# Altium footprint library Footprint-Lib-JVillodres.PcbLib: 38 footprints (part 2 of 3)
Each footprint in its own frame and in the unit in brackets; x right, y up, seen from the top. Pads: shape width x height; smd on the part's side, far side on the other; paste and mask are expansions set on the pad; w line width, h text height; cw(c..) or ccw(c..) is an arc to the next point about the centre after c.
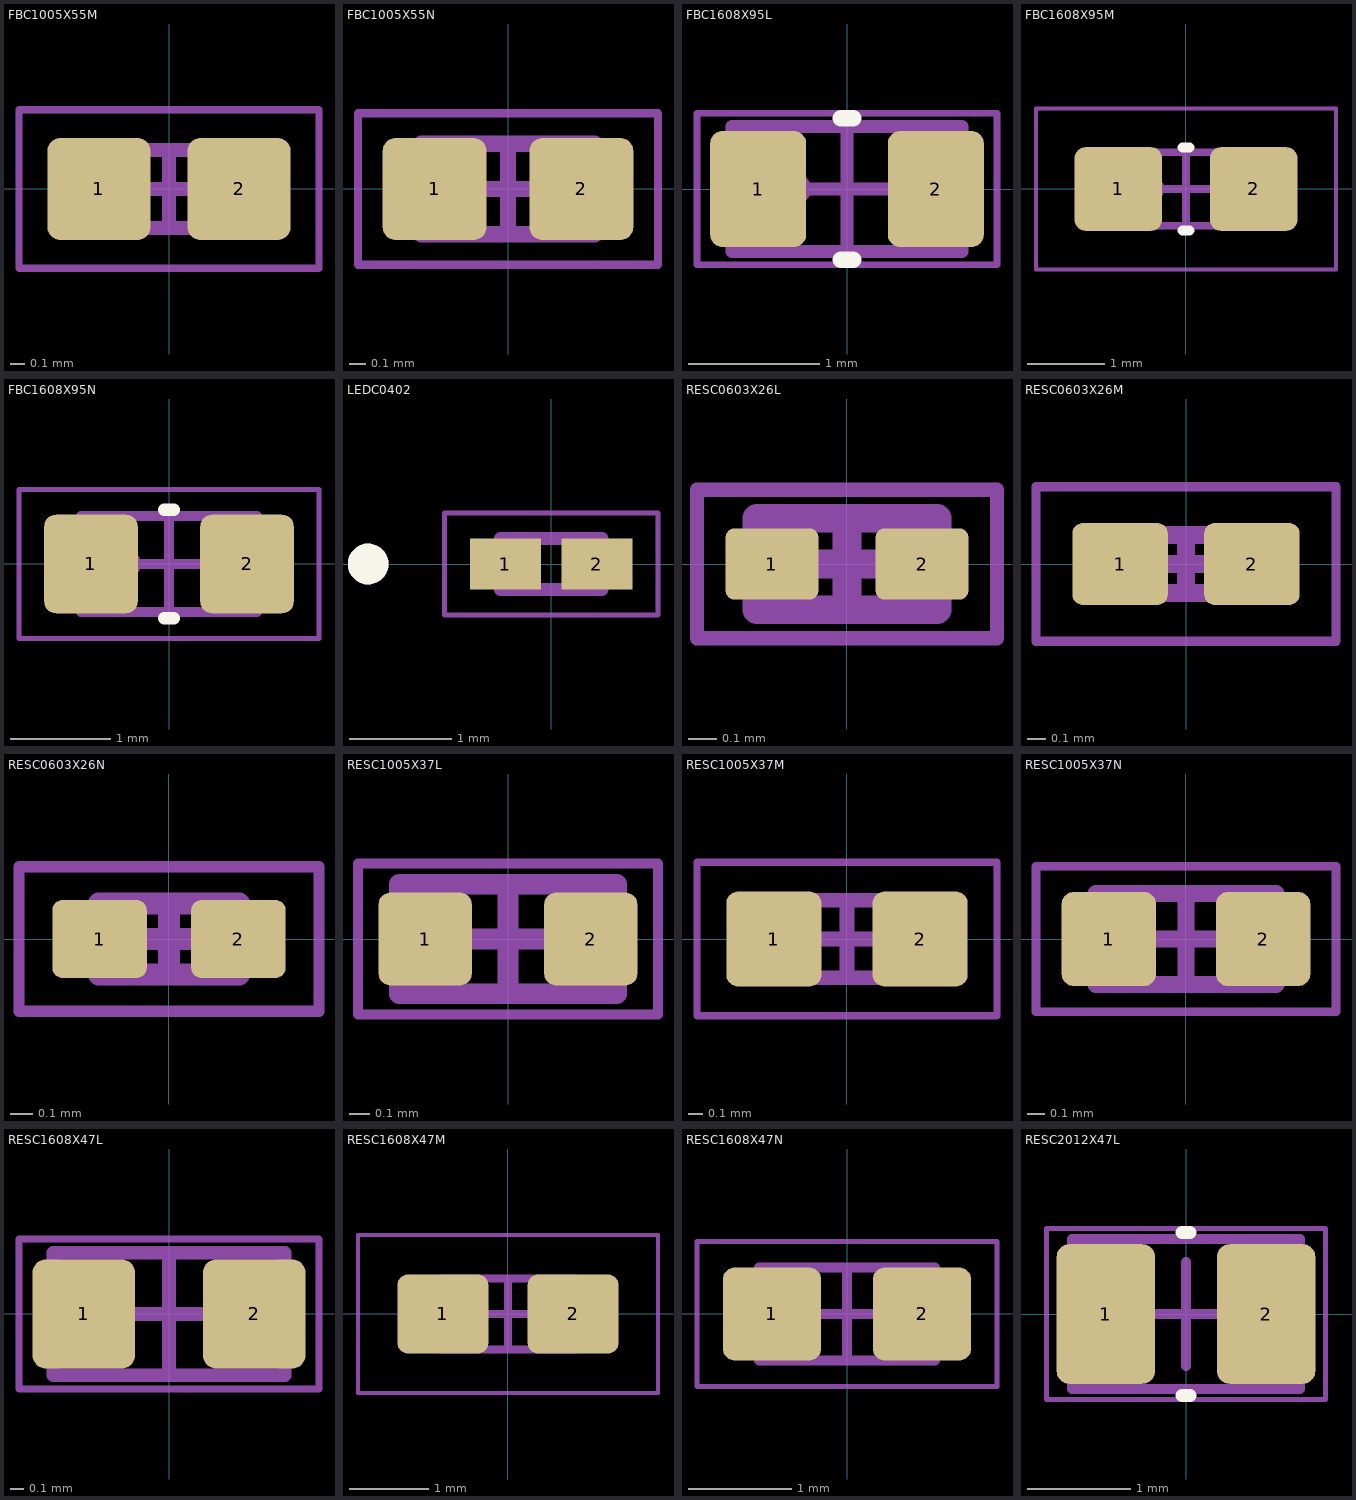
[diagram p1: the footprints below, top view; thin cyan lines are the x and y axes]

## FBC1005X55M [mm] "Chip Ferrite Bead, 2-Leads, Body 1,00x0,50mm, IPC Low Density"
height 0.55
pads (2):
  rrect25% 0.73x0.72 smd: 1(-0.495,0) 2(0.495,0)
Top Assembly:
  lines w0.1: -0.525,-0.275 0.525,-0.275 0.525,0.275 -0.525,0.275 -0.525,-0.275
Top Designator:
  text ".Designator" at 0,0.188 h1
Top Courtyard:
  lines w0.05: -1.06,-0.56 1.06,-0.56 1.06,0.56 -1.06,0.56 -1.06,-0.56
Top Component Center:
  lines w0.1: -0.275,0 0.275,0 ; 0,-0.275 0,0.275
3D body "FBC1005X55M.step": height 0.55, standoff 0, extent -0.5,-0.25 0.5,0.25

## FBC1005X55N [mm] "Chip Ferrite Bead, 2-Leads, Body 1,00x0,50mm, IPC Medium Density"
height 0.55
pads (2):
  rrect25% 0.63x0.62 smd: 1(-0.445,0) 2(0.445,0)
Top Assembly:
  lines w0.1: -0.525,-0.275 0.525,-0.275 0.525,0.275 -0.525,0.275 -0.525,-0.275
Top Designator:
  text ".Designator" at 0,0.188 h1
Top Courtyard:
  lines w0.05: -0.91,-0.46 0.91,-0.46 0.91,0.46 -0.91,0.46 -0.91,-0.46
Top Component Center:
  lines w0.1: -0.275,0 0.275,0 ; 0,-0.275 0,0.275
3D body "FBC1005X55N.step": height 0.55, standoff 0, extent -0.5,-0.25 0.5,0.25

## FBC1608X95L [mm] "Chip Ferrite Bead, 2-Leads, Body 1,60x0,80mm, IPC High Density"
height 0.95
pads (2):
  rrect25% 0.73x0.88 smd: 1(-0.675,0) 2(0.675,0)
Top Overlay:
  lines w0.127: -0.046,-0.539 0.046,-0.539 ; -0.046,0.539 0.046,0.539
Top Assembly:
  circle w0.125: c-0.4,0 r0.062
  lines w0.1: -0.875,-0.475 0.875,-0.475 0.875,0.475 -0.875,0.475 -0.875,-0.475
Top Designator:
  text ".Designator" at 0,0.188 h1
Top Courtyard:
  lines w0.05: -1.14,-0.575 1.14,-0.575 1.14,0.575 -1.14,0.575 -1.14,-0.575
Top Component Center:
  lines w0.1: -0.475,0 0.475,0 ; 0,-0.475 0,0.475
3D body "FBC1608X95L.step": height 0.95, standoff 0, extent -0.8,-0.4 0.8,0.4

## FBC1608X95M [mm] "Chip Ferrite Bead, 2-Leads, Body 1,60x0,80mm, IPC Low Density"
height 0.95
pads (2):
  rrect25% 1.13x1.08 smd: 1(-0.875,0) 2(0.875,0)
Top Overlay:
  lines w0.127: -0.046,-0.539 0.046,-0.539 ; -0.046,0.538 0.046,0.538
Top Assembly:
  circle w0.125: c-0.4,0 r0.062
  lines w0.1: -0.875,-0.475 0.875,-0.475 0.875,0.475 -0.875,0.475 -0.875,-0.475
Top Designator:
  text ".Designator" at 0,0.188 h1
Top Courtyard:
  lines w0.05: -1.94,-1.04 1.94,-1.04 1.94,1.04 -1.94,1.04 -1.94,-1.04
Top Component Center:
  lines w0.1: -0.475,0 0.475,0 ; 0,-0.475 0,0.475
3D body "FBC1608X95M.step": height 0.95, standoff 0, extent -0.8,-0.4 0.8,0.4

## FBC1608X95N [mm] "Chip Ferrite Bead, 2-Leads, Body 1,60x0,80mm, IPC Medium Density"
height 0.95
pads (2):
  rrect25% 0.93x0.98 smd: 1(-0.775,0) 2(0.775,0)
Top Overlay:
  lines w0.127: -0.046,-0.539 0.046,-0.539 ; -0.046,0.538 0.046,0.538
Top Assembly:
  circle w0.125: c-0.4,0 r0.062
  lines w0.1: -0.875,-0.475 0.875,-0.475 0.875,0.475 -0.875,0.475 -0.875,-0.475
Top Designator:
  text ".Designator" at 0,0.188 h1
Top Courtyard:
  lines w0.05: -1.49,-0.74 1.49,-0.74 1.49,0.74 -1.49,0.74 -1.49,-0.74
Top Component Center:
  lines w0.1: -0.475,0 0.475,0 ; 0,-0.475 0,0.475
3D body "FBC1608X95N.step": height 0.95, standoff 0, extent -0.8,-0.4 0.8,0.4

## LEDC0402 [mm]
pads (2):
  rect 0.7x0.5 smd mask+0.05: 1(-0.45,0) 2(0.45,0)
Top Overlay:
  circle w0.2: c-1.8,0 r0.1
Top 3D Body:
  circle w0.2: c-1.8,0 r0.1
  lines w0.127: -0.5,-0.25 -0.5,0.25 0.5,0.25 0.5,-0.25 -0.5,-0.25
Top Courtyard:
  lines w0.05: -1.05,-0.5 1.05,-0.5 1.05,0.5 -1.05,0.5 -1.05,-0.5
3D body "step_temp.STEP": height 0.5, standoff 0, extent -0.5,-0.25 0.5,0.25

## RESC0603X26L [mm] "Chip Resistor, 2-Leads, Body 0,60x0,30mm, IPC High Density"
height 0.26
pads (2):
  rrect25% 0.325x0.25 smd: 1(-0.262,0) 2(0.263,0)
Top Assembly:
  lines w0.1: -0.315,-0.16 -0.315,0.16 0.315,0.16 0.315,-0.16 -0.315,-0.16
Top Designator:
  text ".Designator" at 0,0.188 h1
Top Courtyard:
  lines w0.05: -0.525,-0.26 -0.525,0.26 0.525,0.26 0.525,-0.26 -0.525,-0.26
Top Component Center:
  lines w0.1: -0.16,0 0.16,0 ; 0,-0.16 0,0.16
3D body "RESC0603X26L.step": height 0.26, standoff 0, extent -0.3,-0.15 0.3,0.15

## RESC0603X26M [mm] "Chip Resistor, 2-Leads, Body 0,60x0,30mm, IPC Low Density"
height 0.26
pads (2):
  rrect25% 0.525x0.45 smd: 1(-0.363,0) 2(0.362,0)
Top Assembly:
  lines w0.1: -0.315,-0.16 0.315,-0.16 0.315,0.16 -0.315,0.16 -0.315,-0.16
Top Designator:
  text ".Designator" at 0,0.188 h1
Top Courtyard:
  lines w0.05: -0.825,-0.425 0.825,-0.425 0.825,0.425 -0.825,0.425 -0.825,-0.425
Top Component Center:
  lines w0.1: -0.16,0 0.16,0 ; 0,-0.16 0,0.16
3D body "RESC0603X26M.step": height 0.26, standoff 0, extent -0.3,-0.15 0.3,0.15

## RESC0603X26N [mm] "Chip Resistor, 2-Leads, Body 0,60x0,30mm, IPC Medium Density"
height 0.26
pads (2):
  rrect25% 0.425x0.35 smd: 1(-0.312,0) 2(0.313,0)
Top Assembly:
  lines w0.1: -0.315,-0.16 -0.315,0.16 0.315,0.16 0.315,-0.16 -0.315,-0.16
Top Designator:
  text ".Designator" at 0,0.188 h1
Top Courtyard:
  lines w0.05: -0.675,-0.325 -0.675,0.325 0.675,0.325 0.675,-0.325 -0.675,-0.325
Top Component Center:
  lines w0.1: -0.16,0 0.16,0 ; 0,-0.16 0,0.16
3D body "RESC0603X26N.step": height 0.26, standoff 0, extent -0.3,-0.15 0.3,0.15

## RESC1005X37L [mm] "Chip Resistor, 2-Leads, Body 1,00x0,50mm, IPC High Density"
height 0.37
pads (2):
  rrect25% 0.45x0.45 smd: 1(-0.4,0) 2(0.4,0)
Top Assembly:
  lines w0.1: -0.525,-0.265 -0.525,0.265 0.525,0.265 0.525,-0.265 -0.525,-0.265
Top Designator:
  text ".Designator" at 0,0.188 h1
Top Courtyard:
  lines w0.05: -0.725,-0.365 -0.725,0.365 0.725,0.365 0.725,-0.365 -0.725,-0.365
Top Component Center:
  lines w0.1: -0.265,0 0.265,0 ; 0,-0.265 0,0.265
3D body "RESC1005X37L.step": height 0.37, standoff 0, extent -0.5,-0.25 0.5,0.25

## RESC1005X37M [mm] "Chip Resistor, 2-Leads, Body 1,00x0,50mm, IPC Low Density"
height 0.37
pads (2):
  rrect25% 0.65x0.65 smd: 1(-0.5,0) 2(0.5,0)
Top Assembly:
  lines w0.1: -0.525,-0.265 -0.525,0.265 0.525,0.265 0.525,-0.265 -0.525,-0.265
Top Designator:
  text ".Designator" at 0,0.188 h1
Top Courtyard:
  lines w0.05: -1.025,-0.525 -1.025,0.525 1.025,0.525 1.025,-0.525 -1.025,-0.525
Top Component Center:
  lines w0.1: -0.265,0 0.265,0 ; 0,-0.265 0,0.265
3D body "RESC1005X37M.step": height 0.37, standoff 0, extent -0.5,-0.25 0.5,0.25

## RESC1005X37N [mm] "Chip Resistor, 2-Leads, Body 1,00x0,50mm, IPC Medium Density"
height 0.37
pads (2):
  rrect25% 0.55x0.55 smd: 1(-0.45,0) 2(0.45,0)
Top Assembly:
  lines w0.1: -0.525,-0.265 0.525,-0.265 0.525,0.265 -0.525,0.265 -0.525,-0.265
Top Designator:
  text ".Designator" at 0,0.188 h1
Top Courtyard:
  lines w0.05: -0.875,-0.425 0.875,-0.425 0.875,0.425 -0.875,0.425 -0.875,-0.425
Top Component Center:
  lines w0.1: -0.265,0 0.265,0 ; 0,-0.265 0,0.265
3D body "RESC1005X37N.step": height 0.37, standoff 0, extent -0.5,-0.25 0.5,0.25

## RESC1608X47L [mm] "Chip Resistor, 2-Leads, Body 1,60x0,80mm, IPC High Density"
height 0.47
pads (2):
  rrect25% 0.75x0.8 smd: 1(-0.625,0) 2(0.625,0)
Top Assembly:
  lines w0.1: -0.85,-0.45 -0.85,0.45 0.85,0.45 0.85,-0.45 -0.85,-0.45
Top Designator:
  text ".Designator" at 0,0.188 h1
Top Courtyard:
  lines w0.05: -1.1,-0.55 -1.1,0.55 1.1,0.55 1.1,-0.55 -1.1,-0.55
Top Component Center:
  lines w0.1: -0.45,0 0.45,0 ; 0,-0.45 0,0.45
3D body "RESC1608X47L.step": height 0.47, standoff 0, extent -0.8,-0.4 0.8,0.4

## RESC1608X47M [mm] "Chip Resistor, 2-Leads, Body 1,60x0,80mm, IPC Low Density"
height 0.47
pads (2):
  rrect25% 1.15x1 smd: 1(-0.825,0) 2(0.825,0)
Top Assembly:
  lines w0.1: -0.85,-0.45 -0.85,0.45 0.85,0.45 0.85,-0.45 -0.85,-0.45
Top Designator:
  text ".Designator" at 0,0.188 h1
Top Courtyard:
  lines w0.05: -1.9,-1 -1.9,1 1.9,1 1.9,-1 -1.9,-1
Top Component Center:
  lines w0.1: -0.45,0 0.45,0 ; 0,-0.45 0,0.45
3D body "RESC1608X47M.step": height 0.47, standoff 0, extent -0.8,-0.4 0.8,0.4

## RESC1608X47N [mm] "Chip Resistor, 2-Leads, Body 1,60x0,80mm, IPC Medium Density"
height 0.47
pads (2):
  rrect25% 0.95x0.9 smd: 1(-0.725,0) 2(0.725,0)
Top Assembly:
  lines w0.1: -0.85,-0.45 -0.85,0.45 0.85,0.45 0.85,-0.45 -0.85,-0.45
Top Designator:
  text ".Designator" at 0,0.188 h1
Top Courtyard:
  lines w0.05: -1.45,-0.7 -1.45,0.7 1.45,0.7 1.45,-0.7 -1.45,-0.7
Top Component Center:
  lines w0.1: -0.45,0 0.45,0 ; 0,-0.45 0,0.45
3D body "RESC1608X47N.step": height 0.47, standoff 0, extent -0.8,-0.4 0.8,0.4

## RESC2012X47L [mm] "Chip Resistor, 2-Leads, Body 2,00x1,25mm, IPC High Density"
height 0.47
pads (2):
  rrect25% 0.95x1.35 smd: 1(-0.775,0) 2(0.775,0)
Top Overlay:
  lines w0.127: -0.036,-0.788 0.036,-0.788 ; -0.036,0.788 0.036,0.788
Top Assembly:
  lines w0.1: -1.1,-0.725 -1.1,0.725 1.1,0.725 1.1,-0.725 -1.1,-0.725
Top Designator:
  text ".Designator" at 0,0.188 h1
Top Courtyard:
  lines w0.05: -1.35,-0.825 -1.35,0.825 1.35,0.825 1.35,-0.825 -1.35,-0.825
Top Component Center:
  lines w0.1: -0.5,0 0.5,0 ; 0,-0.5 0,0.5
3D body "RESC2012X47L.step": height 0.47, standoff 0, extent -1,-0.625 1,0.625